# Altium footprint library TE 4DB-P108-03.PCBLIB: 1 footprints
Each footprint in its own frame and in the unit in brackets; x right, y up, seen from the top. Pads: shape width x height; smd on the part's side, far side on the other; paste and mask are expansions set on the pad; w line width, h text height; cw(c..) or ccw(c..) is an arc to the next point about the centre after c.
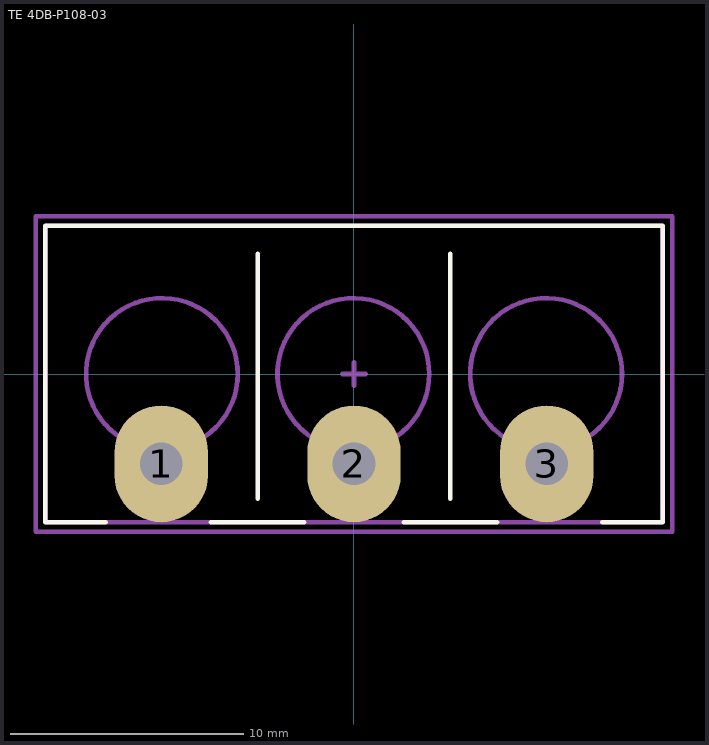
[diagram p0: the footprint, top view; thin cyan lines are the x and y axes]

## TE 4DB-P108-03 [mm] "Assembly, Dual Barrier 4DB P108"
height 13.5
pads (3):
  oval 4x5 hole 1.829: 1(-8.255,-3.85) 2(0,-3.85) 3(8.256,-3.85)
Top Overlay:
  lines w0.2: -10.627,-6.35 -13.227,-6.35 -13.227,6.35 13.228,6.35 13.228,-6.35 10.628,-6.35 ; -6.128,-6.35 -2.127,-6.35 ; -4.127,-5.35 -4.127,5.15 ; 2.128,-6.35 6.129,-6.35 ; 4.129,-5.35 4.129,5.15
Mechanical 1:
  circle w0.2: c8.229,0 r3.25
  circle w0.2: c-8.227,0 r3.25
  circle w0.2: c-0.028,0 r3.25
  lines w0.2: -13.208,-6.35 13.209,-6.35 13.209,6.35 -13.208,6.35 -13.208,-6.35
Mechanical 15:
  lines w0.2: -0.499,0 0.5,0 ; 0.001,-0.5 0.001,0.5 ; -13.627,-6.75 -13.627,6.75 13.628,6.75 13.628,-6.75 -13.627,-6.75
3D body "TE 4DB-P108-03.STEP": height 14.47, standoff -4.06, extent -13.208,-6.35 13.208,6.35